# Altium footprint library Temperature Sensor.PcbLib: 26 footprints (part 2 of 2)
Each footprint in its own frame and in the unit in brackets; x right, y up, seen from the top. Pads: shape width x height; smd on the part's side, far side on the other; paste and mask are expansions set on the pad; w line width, h text height; cw(c..) or ccw(c..) is an arc to the next point about the centre after c.
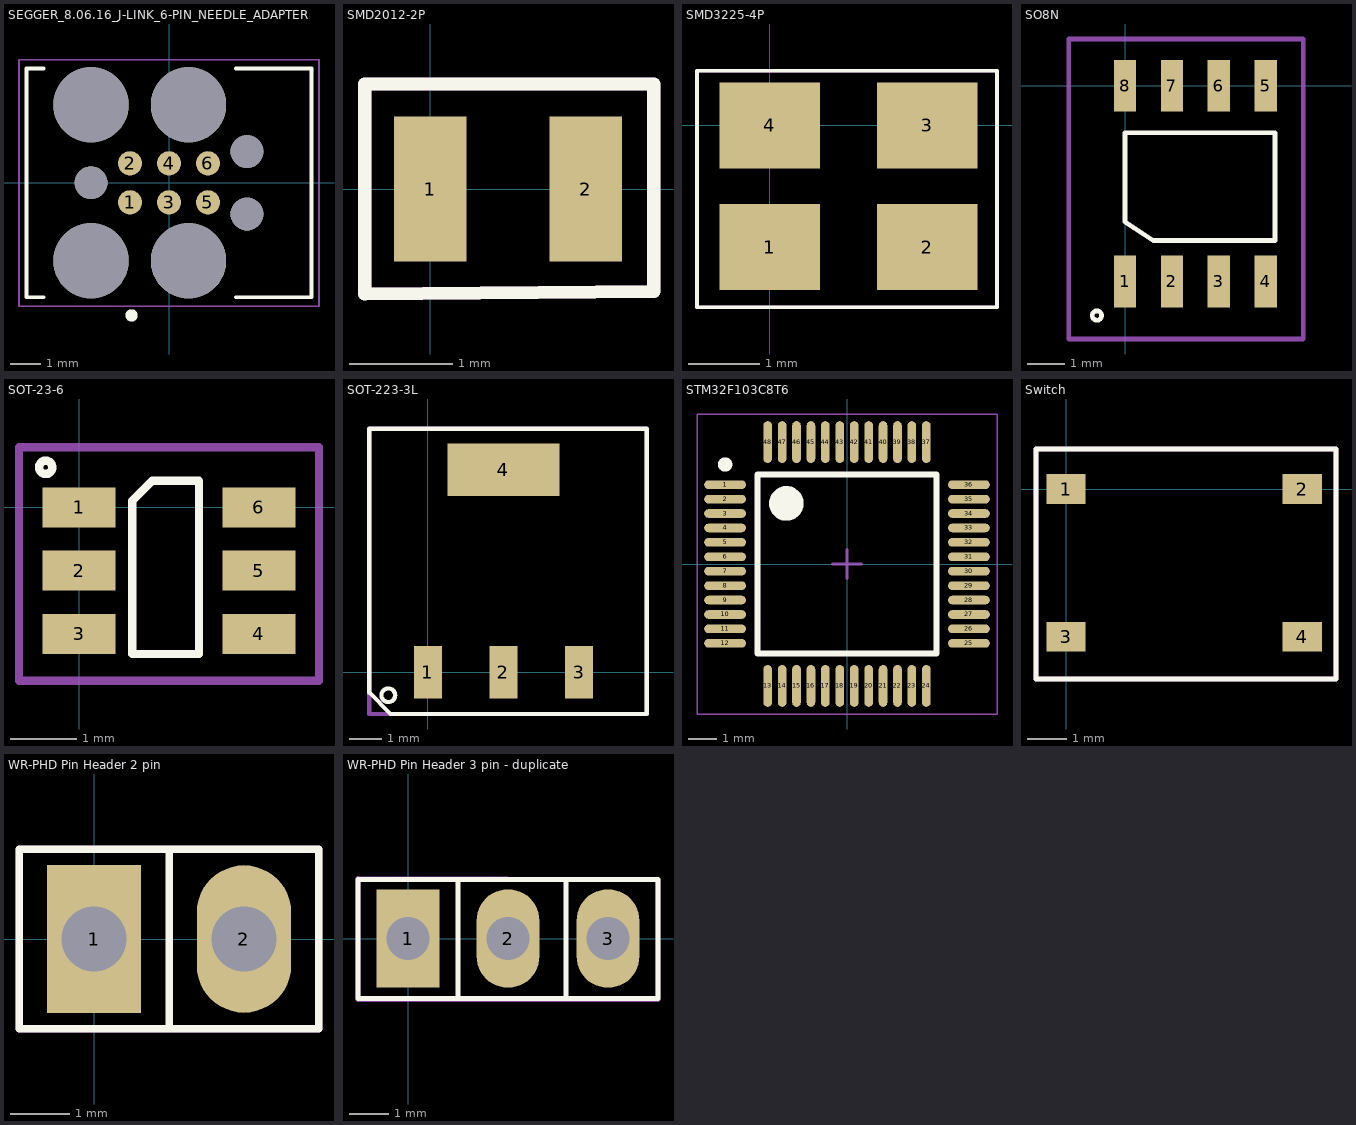
[diagram p1: the footprints below, top view; thin cyan lines are the x and y axes]

## SEGGER_8.06.16_J-LINK_6-PIN_NEEDLE_ADAPTER [mil]
pads (13):
  round 30.98 smd paste-39.37: 1(-50,-25) 2(-50,25) 3(0,-25) 4(0,25) 5(50,-25) 6(50,25)
  round 96.5 hole 96.5 unplated: ""(-100,-100) ""(-100,100) ""(25,-100) ""(25,100)
  round 42.01 hole 42.01 unplated: ""(-100,0) ""(100,-40) ""(100,40)
Top Overlay:
  circle w7.87: c-47.97,-170 r3.94
  lines w5: -160.85,-146.75 -182.5,-146.75 -182.5,146.75 -160.85,146.75 ; 85.85,-146.75 182.5,-146.75 182.5,146.75 85.85,146.75
Top Courtyard:
  lines w1.97: -192.34,-158.09 192.34,-158.09 192.34,158.09 -192.34,158.09 -192.34,-158.09

## SMD2012-2P [mm] "32.768kHz Surface Mount Crystal 7pF ±20ppm SMD2012-2P Crystals ROHS"
pads (2):
  rect 0.7x1.4 smd: 1(0,0) 2(1.5,0)
Top Overlay:
  lines w0.127: -0.635,-1.016 2.159,-0.991 2.159,1.016 -0.635,1.016 -0.635,-1.016
Top Courtyard:
  lines w0.127: -0.635,-1.016 -0.635,1.016 2.159,1.016 2.159,-0.991 -0.635,-1.016
3D body "User Library-32_768KHZ.step": height 0.65, standoff 0, extent -0.263,-0.61 1.787,0.59

## SMD3225-4P [mm] "8MHz Surface Mount Crystal 10pF ±10ppm ±15ppm SMD3225-4P Crystals ROHS"
pads (4):
  rect 1.4x1.2 smd: 1(0,-1.7) 2(2.2,-1.7) 3(2.2,0) 4(0,0)
Top Overlay:
  lines w0.051: -1.016,-2.54 -1.016,0.762 3.175,0.762 3.175,-2.54 -1.016,-2.54
Top Courtyard:
  lines w0.051: -1.016,-2.54 -1.016,0.762 3.175,0.762 3.175,-2.54 -1.016,-2.54
3D body "User Library-SMD-3225_4P.STEP": height 1.05, standoff 0, extent -0.584,-2.012 2.616,0.488

## SO8N [mm] "EEPROM Memory IC 1Mbit I2C 1 MHz 500 ns 8-SOIC"
pads (8):
  rect 0.6x1.4 smd: 1(0,-5.3) 2(1.27,-5.3) 3(2.54,-5.3) 4(3.81,-5.3) 5(3.81,0) 6(2.54,0) 7(1.27,0) 8(0,0)
Top Overlay:
  circle w0.127: c-0.762,-6.223 r0.127
  lines w0.127: 0,-3.683 0.762,-4.191 4.064,-4.191 4.064,-1.27 0,-1.27 0,-3.683
Top Courtyard:
  lines w0.127: -1.524,-6.858 -1.524,1.27 4.826,1.27 4.826,-6.858 -1.524,-6.858
3D body "SO8.STEP": height 2.09, standoff -0.03, extent -0.606,-5.759 4.394,0.476

## SOT-23-6 [mm] "Buck Converter TPS54202"
pads (6):
  rect 1.1x0.6 smd: 1(0,0) 2(0,-0.95) 3(0,-1.9) 4(2.7,-1.9) 5(2.7,-0.95) 6(2.7,0)
Top Layer:
  pour cut-out: 2.408,-1.392
  pour cut-out: 0.508,0.508
  pour cut-out: 0.508,-1.392
Top Overlay:
  circle w0.127: c-0.5,0.6 r0.1
  lines w0.127: 0.8,-2.2 1.8,-2.2 1.8,0.4 1.1,0.4 0.8,0.1 0.8,-2.2
Top Courtyard:
  lines w0.127: -0.9,-2.6 3.6,-2.6 3.6,0.9 -0.9,0.9 -0.9,-2.6
3D body "SOT23-6.step": height 1.25, standoff 0, extent -0.123,-2.4 2.7,0.5

## SOT-223-3L [mm] "Linear Voltage Regulator IC Positive Fixed 1 Output 1A SOT-223-3L"
pads (4):
  rect 0.85x1.6 smd: 1(0,0) 2(2.3,0) 3(4.6,0)
  rect 3.4x1.6 smd: 4(2.3,6.15)
Top Overlay:
  circle w0.127: c-1.2,-0.7 r0.209
  lines w0.127: -1.778,-0.622 -1.13,-1.27 6.655,-1.27 6.655,7.4 -1.778,7.4 -1.778,5.08 -1.778,-0.622
Top Courtyard:
  lines w0.127: -1.778,-1.27 6.655,-1.27 6.655,7.4 -1.778,7.4 -1.778,6.56 -1.778,-1.27
3D body "SOT223.STEP": height 1.7, standoff 0, extent -0.96,-0.462 5.54,6.562

## STM32F103C8T6 [mm] "TSQFP, 48-Leads, Body 7.00x7.00mm, Pitch 0.50mm, IPC Medium Density"
height 1.6
pads (48):
  oval 1.45x0.3 smd: 1(-4.225,2.75) 2(-4.225,2.25) 3(-4.225,1.75) 4(-4.225,1.25) 5(-4.225,0.75) 6(-4.225,0.25) 7(-4.225,-0.25) 8(-4.225,-0.75) 9(-4.225,-1.25) 10(-4.225,-1.75) 11(-4.225,-2.25) 12(-4.225,-2.75) 25(4.225,-2.75) 26(4.225,-2.25) 27(4.225,-1.75) 28(4.225,-1.25) 29(4.225,-0.75) 30(4.225,-0.25) 31(4.225,0.25) 32(4.225,0.75) 33(4.225,1.25) 34(4.225,1.75) 35(4.225,2.25) 36(4.225,2.75)
  oval 0.3x1.45 smd: 13(-2.75,-4.225) 14(-2.25,-4.225) 15(-1.75,-4.225) 16(-1.25,-4.225) 17(-0.75,-4.225) 18(-0.25,-4.225) 19(0.25,-4.225) 20(0.75,-4.225) 21(1.25,-4.225) 22(1.75,-4.225) 23(2.25,-4.225) 24(2.75,-4.225) 37(2.75,4.225) 38(2.25,4.225) 39(1.75,4.225) 40(1.25,4.225) 41(0.75,4.225) 42(0.25,4.225) 43(-0.25,4.225) 44(-0.75,4.225) 45(-1.25,4.225) 46(-1.75,4.225) 47(-2.25,4.225) 48(-2.75,4.225)
Top Overlay:
  circle w0.6: c-2.1,2.1 r0.3
  circle w0.25: c-4.225,3.45 r0.125
  lines w0.2: -3.1,-3.1 3.1,-3.1 3.1,3.1 -3.1,3.1 -3.1,-3.1
Top Courtyard:
  lines w0.05: -5.2,-5.2 5.2,-5.2 5.2,5.2 -5.2,5.2 -5.2,-5.2
  lines w0.1: -0.5,0 0.5,0 ; 0,-0.5 0,0.5
3D body "LQFP48.STEP": height 1.5, standoff 0, extent -4.513,-4.513 4.513,4.513

## Switch [mm]
pads (4):
  rect 1x0.75 smd: 1(0,0) 2(6,0) 3(0,-3.75) 4(6,-3.75)
Top Overlay:
  lines w0.127: -0.762,-4.826 6.858,-4.826 6.858,1.016 -0.762,1.016 -0.762,-4.826
Top Courtyard:
  lines w0.127: -0.762,-4.826 6.858,-4.826 6.858,1.016 -0.762,1.016 -0.762,-4.826
3D body "TS-1187A.step": height 1.4, standoff 0, extent -0.202,-4.4 6.298,0.7

## WR-PHD Pin Header 2 pin [mm] "2 pin header connector 2.53 mm pitch"
pads (2):
  rect 1.6x2.5 hole 1.1: 1(0,0)
  oval 1.6x2.5 hole 1.1: 2(2.54,0)
Top Overlay:
  lines w0.127: 1.27,-1.524 1.27,1.524 ; -1.27,-1.524 -1.27,1.524 3.81,1.524 3.81,-1.524 -1.27,-1.524
Top Courtyard:
  lines w0.127: -1.27,-1.524 -1.27,1.524 ; -1.27,-1.524 3.81,-1.524 ; -1.27,-1.524 -1.27,1.524 ; -1.27,-1.524 3.81,-1.524 ; -1.27,1.524 3.81,1.524 ; -1.27,1.524 3.81,1.524 ; 3.81,-1.524 3.81,1.524 ; 3.81,-1.524 3.81,-0.762 3.81,0.762 3.81,1.524
3D body "Header, Male, 2.54mm, 1x2.STEP": height 8.54, standoff -3, extent -1.27,-1.27 3.81,1.27

## WR-PHD Pin Header 3 pin - duplicate [mm] "3 pin header connector 2.53 mm pitch"
pads (3):
  rect 1.6x2.5 hole 1.1: 1(0,0)
  oval 1.6x2.5 hole 1.1: 2(2.54,0) 3(5.08,0)
Top Overlay:
  lines w0.127: 1.27,-1.524 1.27,1.499 ; 4.013,-1.524 4.013,1.499 ; -1.27,-1.524 6.35,-1.524 6.35,1.499 -1.27,1.499 -1.27,-1.524
Top Courtyard:
  lines w0.127: -1.27,-1.549 6.35,-1.549 6.35,1.499 -1.27,1.524 -1.27,-1.549
3D body "Download_STP_61300311121_rev1.stp": height 8.77, standoff -2.77, extent -1.27,-1.27 6.35,1.27